# Altium footprint library Seeed-OPL-Connector.PCBLIB: 183 footprints (part 4 of 12)
Each footprint in its own frame and in the unit in brackets; x right, y up, seen from the top. Pads: shape width x height; smd on the part's side, far side on the other; paste and mask are expansions set on the pad; w line width, h text height; cw(c..) or ccw(c..) is an arc to the next point about the centre after c.
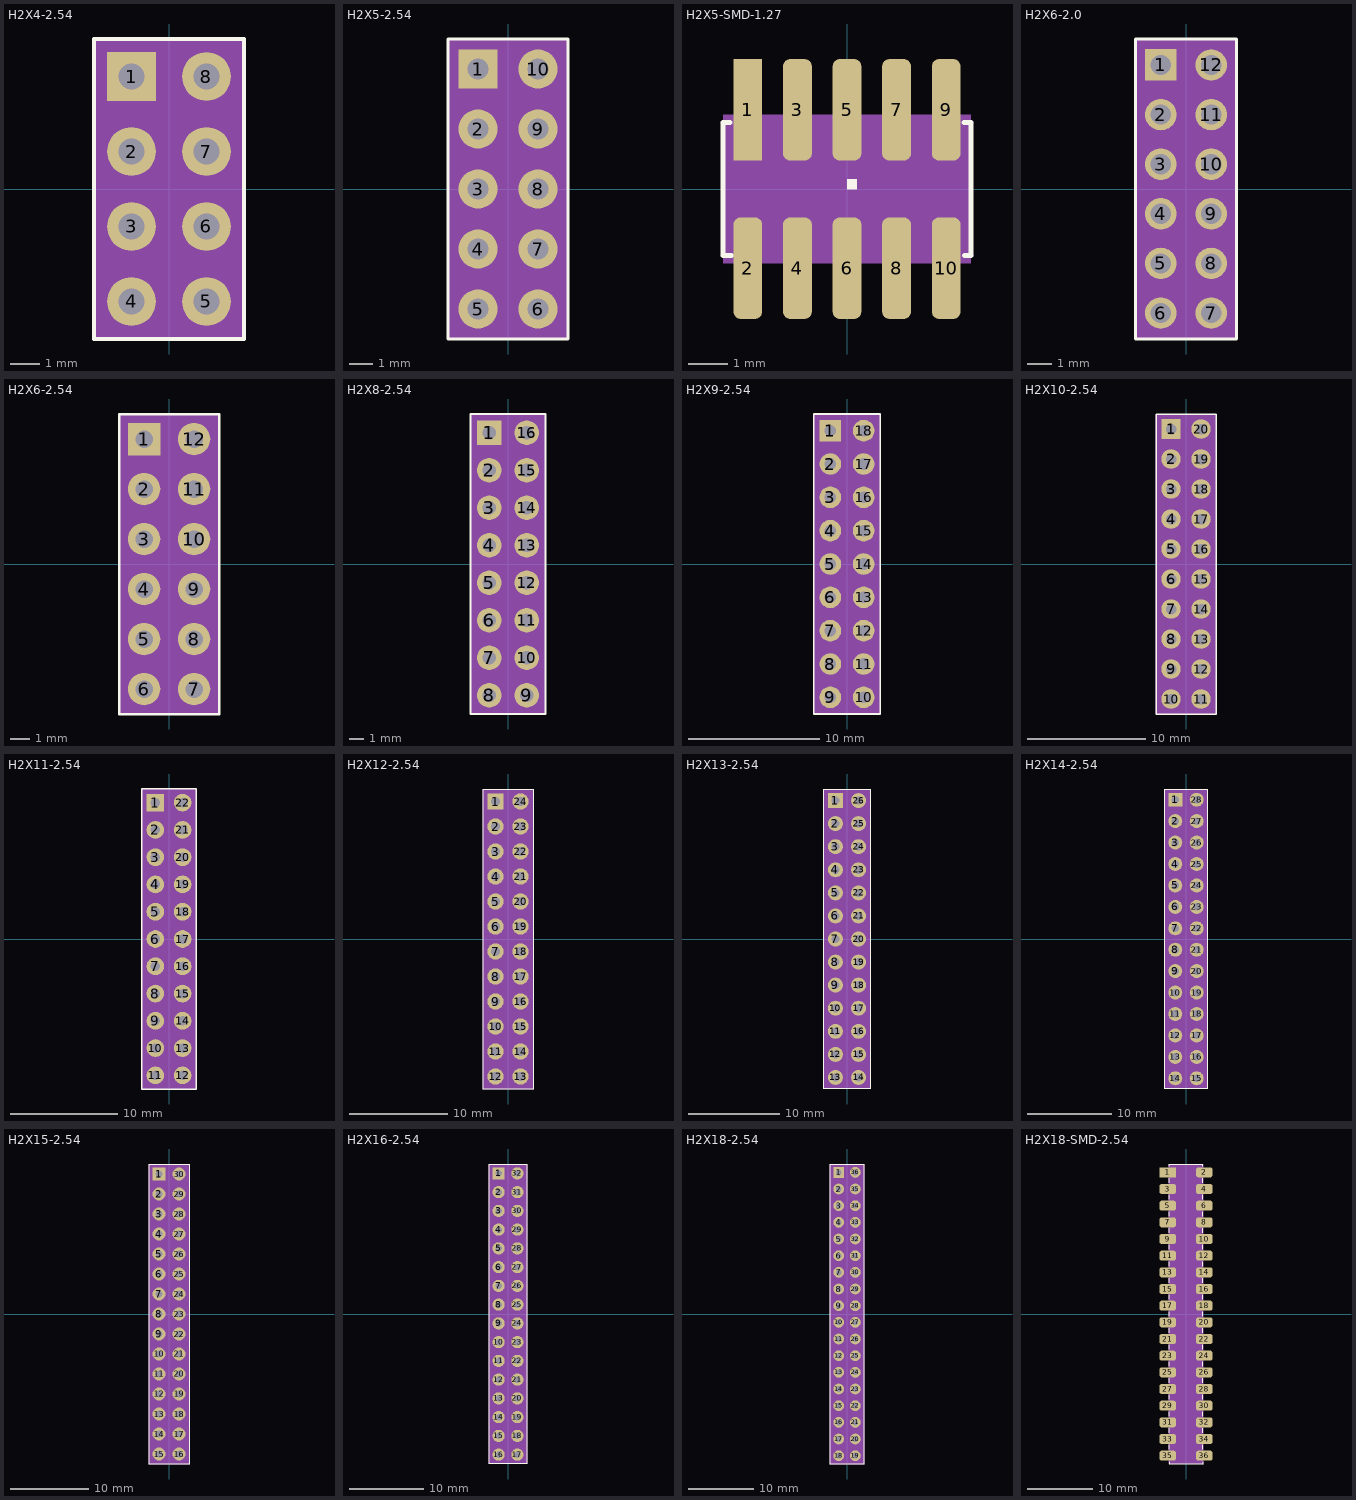
[diagram p3: the footprints below, top view; thin cyan lines are the x and y axes]

## H2X4-2.54 [mil]
pads (8):
  rect 65x65 hole 35: 1(-50,150)
  round 65 hole 35: 2(-50,50) 3(-50,-50) 4(-50,-150) 5(50,-150) 6(50,-50) 7(50,50) 8(50,150)
Top Overlay:
  lines w5: -100,-200 100,-200 100,200 -100,200 -100,-200
Mechanical 27:
  rectangle: -100,-200 100,200

## H2X5-2.54 [mil]
pads (10):
  rect 65x65 hole 35: 1(-50,200)
  round 65 hole 35: 2(-50,100) 3(-50,0) 4(-50,-100) 5(-50,-200) 6(50,-200) 7(50,-100) 8(50,0) 9(50,100) 10(50,200)
Top Overlay:
  lines w5: -100,-250 100,-250 100,250 -100,250 -100,-250
Mechanical 27:
  rectangle: -100,-250 100,250
  lines w0: -100,-250 100,-250 100,250 -100,250 -100,-250

## H2X5-SMD-1.27 [mil]
pads (10):
  rect 29.13x102.36 smd: 1(-100,79.72)
  rrect50% 29.13x102.36 smd: 2(-100,-79.72) 3(-50,79.72) 4(-50,-79.72) 5(0,79.72) 6(0,-79.72) 7(50,79.72) 8(50,-79.72) 9(100,79.72) 10(100,-79.72)
Top Overlay:
  region: 0,0 10,0 10,10 0,10
  lines w5: -125,-66.93 -125,66.93 -118.11,66.93 ; -123.43,-66.93 -116.54,-66.93 ; 118.11,66.93 125,66.93 125,-66.93 118.31,-66.93
Mechanical 16:
  lines w5: -125,-66.93 125,-66.93 ; -125,66.93 125,66.93
Mechanical 27:
  rectangle: -125,-75 125,75

## H2X6-2.0 [mil]
pads (12):
  rect 50x50 hole 32: 1(-40,196.85)
  round 50 hole 32: 2(-40,118.11) 3(-40,39.37) 4(-40,-39.37) 5(-40,-118.11) 6(-40,-196.85) 7(40,-196.85) 8(40,-118.11) 9(40,-39.37) 10(40,39.37) 11(40,118.11) 12(40,196.85)
Top Overlay:
  lines w5: -80,-238.11 80,-238.11 80,238.11 -80,238.11 -80,-238.11
Mechanical 27:
  rectangle: -80,-238.11 80,238.11

## H2X6-2.54 [mil]
pads (12):
  rect 65x65 hole 35: 1(-50,250)
  round 65 hole 35: 2(-50,150) 3(-50,50) 4(-50,-50) 5(-50,-150) 6(-50,-250) 7(50,-250) 8(50,-150) 9(50,-50) 10(50,50) 11(50,150) 12(50,250)
Top Overlay:
  lines w5: -100,-300 100,-300 100,300 -100,300 -100,-300
Mechanical 27:
  rectangle: -100,-300 100,300
  lines w0: -100,-300 100,-300 100,300 -100,300 -100,-300

## H2X8-2.54 [mil]
pads (16):
  rect 65x65 hole 35: 1(-50,350)
  round 65 hole 35: 2(-50,250) 3(-50,150) 4(-50,50) 5(-50,-50) 6(-50,-150) 7(-50,-250) 8(-50,-350) 9(50,-350) 10(50,-250) 11(50,-150) 12(50,-50) 13(50,50) 14(50,150) 15(50,250) 16(50,350)
Top Overlay:
  lines w5: -100,-400 100,-400 100,400 -100,400 -100,-400
Mechanical 27:
  rectangle: -100,-400 100,400
  lines w0: -100,-200 100,-200 100,400 -100,400 -100,-200

## H2X9-2.54 [mil]
pads (18):
  rect 65x65 hole 35: 1(-50,400)
  round 65 hole 35: 2(-50,300) 3(-50,200) 4(-50,100) 5(-50,0) 6(-50,-100) 7(-50,-200) 8(-50,-300) 9(-50,-400) 10(50,-400) 11(50,-300) 12(50,-200) 13(50,-100) 14(50,0) 15(50,100) 16(50,200) 17(50,300) 18(50,400)
Top Overlay:
  lines w5: -100,-450 100,-450 100,450 -100,450 -100,-450
Mechanical 27:
  rectangle: -100,-450 100,450
  lines w0: -100,-450 100,-450 100,450 -100,450 -100,-450

## H2X10-2.54 [mil]
pads (20):
  rect 65x65 hole 35: 1(-50,450)
  round 65 hole 35: 2(-50,350) 3(-50,250) 4(-50,150) 5(-50,50) 6(-50,-50) 7(-50,-150) 8(-50,-250) 9(-50,-350) 10(-50,-450) 11(50,-450) 12(50,-350) 13(50,-250) 14(50,-150) 15(50,-50) 16(50,50) 17(50,150) 18(50,250) 19(50,350) 20(50,450)
Top Overlay:
  lines w5: -100,-500 100,-500 100,500 -100,500 -100,-500
Mechanical 27:
  rectangle: -100,-500 100,500
  lines w0: -100,-500 100,-500 100,500 -100,500 -100,-500

## H2X11-2.54 [mil]
pads (22):
  rect 65x65 hole 35: 1(-50,500)
  round 65 hole 35: 2(-50,400) 3(-50,300) 4(-50,200) 5(-50,100) 6(-50,0) 7(-50,-100) 8(-50,-200) 9(-50,-300) 10(-50,-400) 11(-50,-500) 12(50,-500) 13(50,-400) 14(50,-300) 15(50,-200) 16(50,-100) 17(50,0) 18(50,100) 19(50,200) 20(50,300) 21(50,400) 22(50,500)
Top Overlay:
  lines w5: -100,-550 100,-550 100,550 -100,550 -100,-550
Mechanical 27:
  rectangle: -100,-550 100,550
  lines w0: -100,-550 100,-550 100,550 -100,550 -100,-550

## H2X12-2.54 [mil]
pads (24):
  rect 65x65 hole 35: 1(-50,550)
  round 65 hole 35: 2(-50,450) 3(-50,350) 4(-50,250) 5(-50,150) 6(-50,50) 7(-50,-50) 8(-50,-150) 9(-50,-250) 10(-50,-350) 11(-50,-450) 12(-50,-550) 13(50,-550) 14(50,-450) 15(50,-350) 16(50,-250) 17(50,-150) 18(50,-50) 19(50,50) 20(50,150) 21(50,250) 22(50,350) 23(50,450) 24(50,550)
Top Overlay:
  lines w5: -100,-600 100,-600 100,600 -100,600 -100,-600
Mechanical 27:
  rectangle: -100,-600 100,600
  lines w0: -100,-600 100,-600 100,600 -100,600 -100,-600

## H2X13-2.54 [mil]
pads (26):
  rect 65x65 hole 35: 1(-50,600)
  round 65 hole 35: 2(-50,500) 3(-50,400) 4(-50,300) 5(-50,200) 6(-50,100) 7(-50,0) 8(-50,-100) 9(-50,-200) 10(-50,-300) 11(-50,-400) 12(-50,-500) 13(-50,-600) 14(50,-600) 15(50,-500) 16(50,-400) 17(50,-300) 18(50,-200) 19(50,-100) 20(50,0) 21(50,100) 22(50,200) 23(50,300) 24(50,400) 25(50,500) 26(50,600)
Top Overlay:
  lines w5: -100,-650 100,-650 100,650 -100,650 -100,-650
Mechanical 27:
  rectangle: -100,-650 100,650
  lines w0: -100,-350 100,-350 100,650 -100,650 -100,-350

## H2X14-2.54 [mil]
pads (28):
  rect 65x65 hole 35: 1(-50,650)
  round 65 hole 35: 2(-50,550) 3(-50,450) 4(-50,350) 5(-50,250) 6(-50,150) 7(-50,50) 8(-50,-50) 9(-50,-150) 10(-50,-250) 11(-50,-350) 12(-50,-450) 13(-50,-550) 14(-50,-650) 15(50,-650) 16(50,-550) 17(50,-450) 18(50,-350) 19(50,-250) 20(50,-150) 21(50,-50) 22(50,50) 23(50,150) 24(50,250) 25(50,350) 26(50,450) 27(50,550) 28(50,650)
Top Overlay:
  lines w5: -100,-700 100,-700 100,700 -100,700 -100,-700
Mechanical 27:
  rectangle: -100,-700 100,700
  lines w0: -100,-700 100,-700 100,700 -100,700 -100,-700

## H2X15-2.54 [mil]
pads (30):
  rect 65x65 hole 35: 1(-50,700)
  round 65 hole 35: 2(-50,600) 3(-50,500) 4(-50,400) 5(-50,300) 6(-50,200) 7(-50,100) 8(-50,0) 9(-50,-100) 10(-50,-200) 11(-50,-300) 12(-50,-400) 13(-50,-500) 14(-50,-600) 15(-50,-700) 16(50,-700) 17(50,-600) 18(50,-500) 19(50,-400) 20(50,-300) 21(50,-200) 22(50,-100) 23(50,0) 24(50,100) 25(50,200) 26(50,300) 27(50,400) 28(50,500) 29(50,600) 30(50,700)
Top Overlay:
  lines w5: -100,-750 100,-750 100,750 -100,750 -100,-750
Mechanical 27:
  rectangle: -100,-750 100,750
  lines w0: -100,-750 100,-750 100,750 -100,750 -100,-750

## H2X16-2.54 [mil]
pads (32):
  rect 65x65 hole 35: 1(-50,750)
  round 65 hole 35: 2(-50,650) 3(-50,550) 4(-50,450) 5(-50,350) 6(-50,250) 7(-50,150) 8(-50,50) 9(-50,-50) 10(-50,-150) 11(-50,-250) 12(-50,-350) 13(-50,-450) 14(-50,-550) 15(-50,-650) 16(-50,-750) 17(50,-750) 18(50,-650) 19(50,-550) 20(50,-450) 21(50,-350) 22(50,-250) 23(50,-150) 24(50,-50) 25(50,50) 26(50,150) 27(50,250) 28(50,350) 29(50,450) 30(50,550) 31(50,650) 32(50,750)
Top Overlay:
  lines w5: -100,-800 100,-800 100,800 -100,800 -100,-800
Mechanical 27:
  rectangle: -100,-800 100,800
  lines w0: -100,-800 100,-800 100,800 -100,800 -100,-800

## H2X18-2.54 [mil]
pads (36):
  rect 65x65 hole 35: 1(-50,850)
  round 65 hole 35: 2(-50,750) 3(-50,650) 4(-50,550) 5(-50,450) 6(-50,350) 7(-50,250) 8(-50,150) 9(-50,50) 10(-50,-50) 11(-50,-150) 12(-50,-250) 13(-50,-350) 14(-50,-450) 15(-50,-550) 16(-50,-650) 17(-50,-750) 18(-50,-850) 19(50,-850) 20(50,-750) 21(50,-650) 22(50,-550) 23(50,-450) 24(50,-350) 25(50,-250) 26(50,-150) 27(50,-50) 28(50,50) 29(50,150) 30(50,250) 31(50,350) 32(50,450) 33(50,550) 34(50,650) 35(50,750) 36(50,850)
Top Overlay:
  lines w5: -100,-900 100,-900 100,900 -100,900 -100,-900
Mechanical 27:
  rectangle: -100,-900 100,900
  lines w0: -100,-900 100,-900 100,900 -100,900 -100,-900

## H2X18-SMD-2.54 [mil]
pads (36):
  rect 100x60 smd: 1(-110,850)
  rrect50% 100x60 smd: 2(110,850) 3(-110,750) 4(110,750) 5(-110,650) 6(110,650) 7(-110,550) 8(110,550) 9(-110,450) 10(110,450) 11(-110,350) 12(110,350) 13(-110,250) 14(110,250) 15(-110,150) 16(110,150) 17(-110,50) 18(110,50) 19(-110,-50) 20(110,-50) 21(-110,-150) 22(110,-150) 23(-110,-250) 24(110,-250) 25(-110,-350) 26(110,-350) 27(-110,-450) 28(110,-450) 29(-110,-550) 30(110,-550) 31(-110,-650) 32(110,-650) 33(-110,-750) 34(110,-750) 35(-110,-850) 36(110,-850)
Top Overlay:
  lines w5: -100,-885.83 -100,-900 100,-900 100,-885.83 ; -100,-812.6 -100,-785.04 ; -100,-712.6 -100,-685.04 ; -100,-612.6 -100,-585.04 ; -100,-512.6 -100,-485.04 ; -100,-412.6 -100,-385.04 ; -100,-312.6 -100,-285.04 ; -100,-212.6 -100,-185.04 ; -100,-112.6 -100,-85.04 ; -100,-12.6 -100,14.96 ; -100,87.4 -100,114.96 ; -100,187.4 -100,214.96 ; -100,287.4 -100,314.96 ; -100,387.4 -100,414.96 ; -100,487.4 -100,514.96 ; -100,587.4 -100,614.96 ; -100,687.4 -100,714.96 ; -100,787.4 -100,814.96 ; -100,887.4 -100,900 100,900 100,887.4 ; 100,-812.6 100,-785.04 ; 100,-712.6 100,-685.04 ; 100,-612.6 100,-585.04 ; 100,-512.6 100,-485.04 ; 100,-412.6 100,-385.04 ; 100,-312.6 100,-285.04 ; 100,-212.6 100,-185.04 ; 100,-112.6 100,-85.04 ; 100,-12.6 100,14.96 ; 100,87.4 100,114.96 ; 100,187.4 100,214.96 ; 100,287.4 100,314.96 ; 100,387.4 100,414.96 ; 100,487.4 100,514.96 ; 100,587.4 100,614.96 ; 100,687.4 100,714.96 ; 100,787.4 100,814.96
Mechanical 16:
  lines w5: -100,-900 -100,900 ; 100,-900 100,900
Mechanical 27:
  rectangle: -100,-900 100,900